# Altium schematic symbol library Components - 01.12.24 - 19.03.SchLib: 1 symbol
Pins are listed as number, name and electrical type; pins without a type are passive.

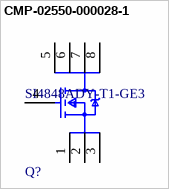
[diagram p0: symbol CMP-02550-000028-1]

## CMP-02550-000028-1
designator Q?, comment SI4848ADY-T1-GE3
MOSFET N-CH 150V 5.5A 8SOIC; Manufacturer: Vishay; Number Of N Channels: 1; Reverse Recovery Time: 57ns; Threshold Vgs Max: 4V; Transconductance: 5S; Input Capacitace At Vds: 335pF @ 75V; Reverse Recovery Charge: 110nC; Max Junction Temp: +150°C; Continuous Drain Current: 3.9A; Pulse Drain Current: 20A; Power Dissipation: 2.5W; Threshold Vgs Min: 2V; Turn On Delay Time: 8ns; Drain To Source Resistance: 0.07Ω; Rthja Max: 43°C/W; Typ Forward Diode Voltage: 0.85V; Gate Charge At Vgs: 6.5nC @ 10V; Max Forward Diode Voltage: 1.2V; Gate To Source Voltage: 20V; Standoff Height: 0.1mm; Depletion Mode: False; Turn Off Delay Time: 12ns; Mouser Description: ThunderFET Power MOSFET N-Channel Single 150V VDS ±20V VGS 5.5A ID 8-Pin SOIC T/R; RoHS: TRUE; Ipc Land Pattern Name: SOIC127P600X155-8; Temperature Range Low: -55°C; ComponentLink2URL: https://www.vishay.com/docs/77716/si4848ady.pdf; Device Class L1: Discrete Semiconductors; Number Of Channels: 1; Device Class L2: Transistors; Automotive: No; Octopart: https://octopart.com/si4848ady-t1-ge3-vishay-88182557; Height: 1.75mm; Package: C-06527; Drain To Source Voltage: 150V; ComponentLink2Description: Datasheet; Lead Free: Yes; Drain To Source Breakdown Voltage: 150V; Manufacturer Part Number: SI4848ADY-T1-GE3; Digikey Description: MOSFET N-CH 150V 5.5A 8SOIC; Temperature Range High: +150°C; Device Class L3: MOSFETs; Category: Trans; Temperature: -55°C to +150°C; Footprint Url: https://www.vishay.com/docs/68964/si4838bd.pdf
footprint FP-C-06527-IPC_A
footprint FP-C-06527-IPC_C
footprint FP-C-06527-MFG
footprint FP-C-06527-IPC_B
pins: 1 S, 2 S, 3 S, 4 G, 5 D, 6 D, 7 D, 8 D